# Altium footprint library VXO7805500MTR.PcbLib: 1 footprints
Each footprint in its own frame and in the unit in brackets; x right, y up, seen from the top. Pads: shape width x height; smd on the part's side, far side on the other; paste and mask are expansions set on the pad; w line width, h text height; cw(c..) or ccw(c..) is an arc to the next point about the centre after c.
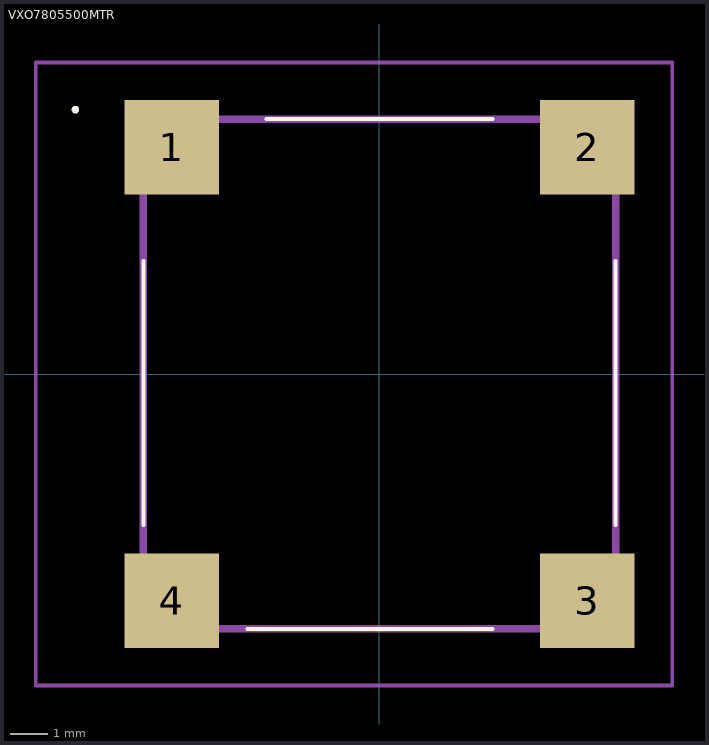
[diagram p0: the footprint, top view; thin cyan lines are the x and y axes]

## VXO7805500MTR [mm]
pads (4):
  rect 2.5x2.5 smd: 1(-5.5,6) 2(5.5,6) 3(5.5,-6) 4(-5.5,-6)
Top Overlay:
  lines w0.1: -6.25,-4 -6.25,3 ; -3.5,-6.75 3,-6.75 ; -3,6.75 3,6.75 ; 6.25,-4 6.25,3 ; -8.1,7 cw(c-8.05,7) -8,7 ; -8.1,7 -8.1,7 ; -8.1,7 ccw(c-8.05,7) -8,7 ; -8,7 -8,7
Mechanical 15:
  lines w0.2: -6.25,-6.75 6.25,-6.75 6.25,6.75 -6.25,6.75 -6.25,-6.75
Mechanical 20:
  lines w0.1: -9.1,-8.25 7.75,-8.25 7.75,8.25 -9.1,8.25 -9.1,-8.25
3D body "VXO7805-500-M-TR.stp": height 5.8, standoff -4.65, extent -10,-3.376 10,3.376